# Altium footprint library Switch.PcbLib: 3 footprints
Each footprint in its own frame and in the unit in brackets; x right, y up, seen from the top. Pads: shape width x height; smd on the part's side, far side on the other; paste and mask are expansions set on the pad; w line width, h text height; cw(c..) or ccw(c..) is an arc to the next point about the centre after c.
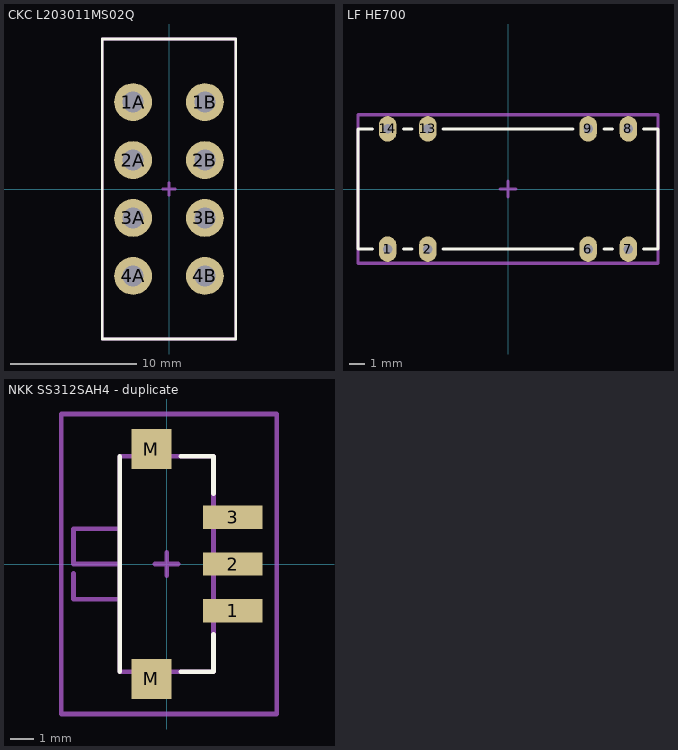
[diagram p0: the footprints below, top view; thin cyan lines are the x and y axes]

## CKC L203011MS02Q [mm]
pads (8):
  round 3 hole 1.65: 1A(-2.85,6.9) 1B(2.85,6.9) 2A(-2.85,2.3) 2B(2.85,2.3) 3A(-2.85,-2.3) 3B(2.85,-2.3) 4A(-2.85,-6.9) 4B(2.85,-6.9)
Top Overlay:
  lines w0.2: -5.3,-11.9 5.3,-11.9 5.3,11.9 -5.3,11.9 -5.3,-11.9
Mechanical 15:
  lines w0.2: -0.5,0 0.5,0 ; 0,-0.5 0,0.5 ; -5.3,-11.9 -5.3,11.9 5.3,11.9 5.3,-11.9 -5.3,-11.9
3D body "C&K Components - L203011MS02Q.stp": height 14.14, standoff -4.23, extent -5.41,-11.963 5.41,11.964

## LF HE700 [mm]
height 5.5
pads (8):
  oval 1.11x1.61 hole 0.61: 1(-7.62,-3.81) 2(-5.08,-3.81) 6(5.08,-3.81) 7(7.62,-3.81) 8(7.62,3.81) 9(5.08,3.81) 13(-5.08,3.81) 14(-7.62,3.81)
Top Overlay:
  lines w0.2: -8.6,-3.8 -9.5,-3.8 -9.5,3.8 -8.6,3.8 ; -6.6,-3.8 -6.1,-3.8 ; -6.6,3.8 -6.1,3.8 ; -4.1,-3.8 4.1,-3.8 ; -4.1,3.8 4.1,3.8 ; 6.1,-3.8 6.6,-3.8 ; 6.1,3.8 6.6,3.8 ; 8.6,-3.8 9.5,-3.8 9.5,3.8 8.6,3.8
Mechanical 15:
  lines w0.2: -0.5,0 0.5,0 ; 0,-0.5 0,0.5 ; -9.5,-4.7 -9.5,4.7 9.5,4.7 9.5,-4.7 -9.5,-4.7
3D body "Standex-Meder Electronics-DIP-1A72-11L_WEB.step": height 5.04, standoff -2.5, extent -9.65,-3.935 9.65,3.935

## NKK SS312SAH4 - duplicate [mm]
height 2.9
pads (5):
  rect 2.55x1 smd: 1(2.825,-2) 2(2.825,0) 3(2.825,2)
  rect 1.7x1.7 smd: M(-0.65,-4.9) M(-0.65,4.9)
Top Overlay:
  lines w0.2: -2,-4.6 -2,4.6 ; 0.6,-4.6 2,-4.6 2,-3 ; 0.6,4.6 2,4.6 2,3
Mechanical 1:
  lines w0.2: -3.976,-0.4 -3.976,-1.5 -2,-1.5 ; -2,0 -3.976,0 -3.976,1.5 -2,1.5 ; -2,-4.6 -2,4.6 2,4.6 2,-4.6 -2,-4.6
Mechanical 15:
  lines w0.2: -0.5,0 0.5,0 ; 0,-0.5 0,0.5 ; -4.5,-6.4 -4.5,6.4 4.7,6.4 4.7,-6.4 -4.5,-6.4
3D body "NKK SS312SAH4.STEP": height 2.9, standoff -0.15, extent -3.976,-5.245 3.416,5.245